# Altium schematic symbol library IVV_Connectors.SchLib: 11 symbols
Pins are listed as number, name and electrical type; pins without a type are passive.

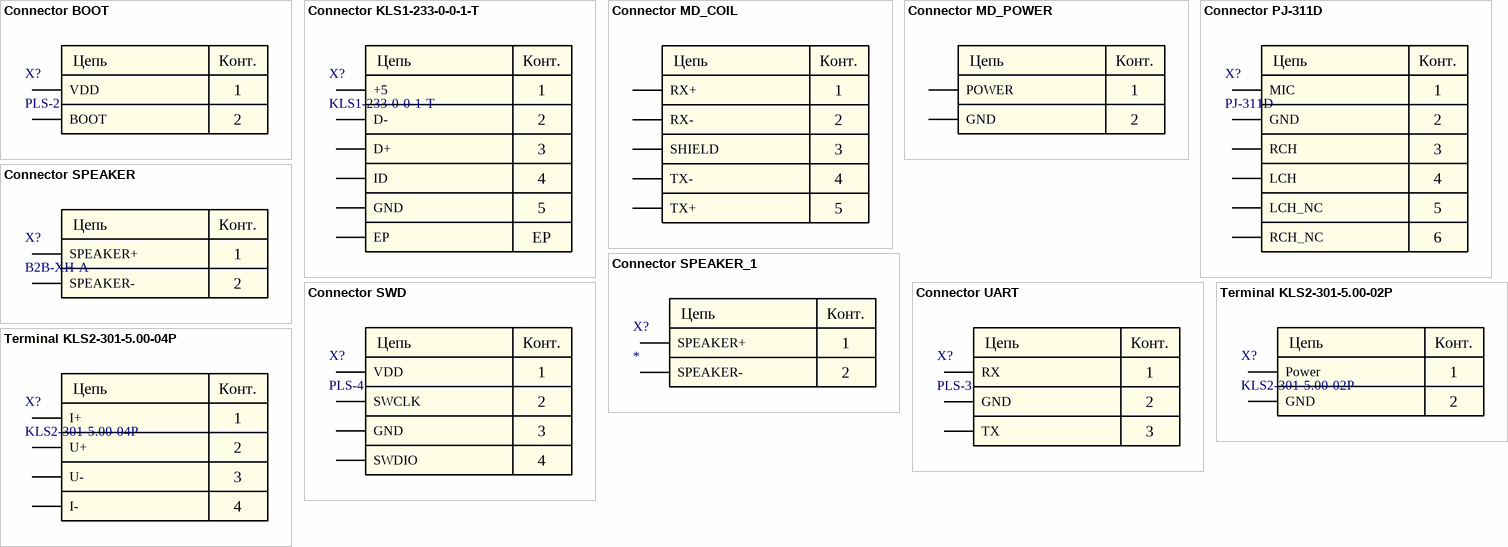
[diagram p0: symbols Connector BOOT to Terminal KLS2-301-5.00-04P]

## Connector BOOT
designator X?, comment PLS-2
PLS-2 Connector
footprint Connector PLS-2
pins: 1 VDD, 2 BOOT
text: Цепь; Конт.

## Connector KLS1-233-0-0-1-T
designator X?, comment KLS1-233-0-0-1-T
microUSB Connector
footprint Connector KLS1-233-0-0-1-T
pins: 1 +5, 2 D-, 3 D+, 4 ID, 5 GND, EP
text: Цепь; Конт.

## Connector MD_COIL
designator X?  (value not drawn)
footprint Connector MD_COIL
pins: 1 RX+, 2 RX-, 3 SHIELD, 4 TX-, 5 TX+
text: Цепь; Конт.

## Connector MD_POWER
designator X?  (value not drawn)
footprint Connector MD_POWER
pins: 1 POWER, 2 GND
text: Цепь; Конт.

## Connector PJ-311D
designator X?, comment PJ-311D
Audio Jack 3.5mm; Value: PJ-311D
footprint Connector PJ-311D
pins: 1 MIC, 2 GND, 3 RCH, 4 LCH, 5 LCH_NC, 6 RCH_NC
text: Цепь; Конт.

## Connector SPEAKER
designator X?, comment B2B-XH-A
B2B-XH-A  Connector
footprint Connector B2B-XH-A
pins: 1 SPEAKER+, 2 SPEAKER-
text: Цепь; Конт.

## Connector SPEAKER_1
designator X?
footprint Connector SPEAKER
pins: 1 SPEAKER+, 2 SPEAKER-
text: Цепь; Конт.

## Connector SWD
designator X?, comment PLS-4
PLS-4 Connector
footprint Connector PLS-4
pins: 1 VDD, 2 SWCLK, 3 GND, 4 SWDIO
text: Цепь; Конт.

## Connector UART
designator X?, comment PLS-3
PLS-3 Connector
footprint Connector PLS-3
pins: 1 RX, 2 GND, 3 TX
text: Цепь; Конт.

## Terminal KLS2-301-5.00-02P
designator X?, comment KLS2-301-5.00-02P
footprint Terminal KLS2-301-5.00-02P
pins: 1 Power, 2 GND
text: Цепь; Конт.

## Terminal KLS2-301-5.00-04P
designator X?, comment KLS2-301-5.00-04P
footprint Terminal KLS2-301-5.00-04P
pins: 1 I+, 2 U+, 3 U-, 4 I-
text: Цепь; Конт.